# Altium footprint library KEYSTONE-3002.PcbLib: 1 footprints
Each footprint in its own frame and in the unit in brackets; x right, y up, seen from the top. Pads: shape width x height; smd on the part's side, far side on the other; paste and mask are expansions set on the pad; w line width, h text height; cw(c..) or ccw(c..) is an arc to the next point about the centre after c.
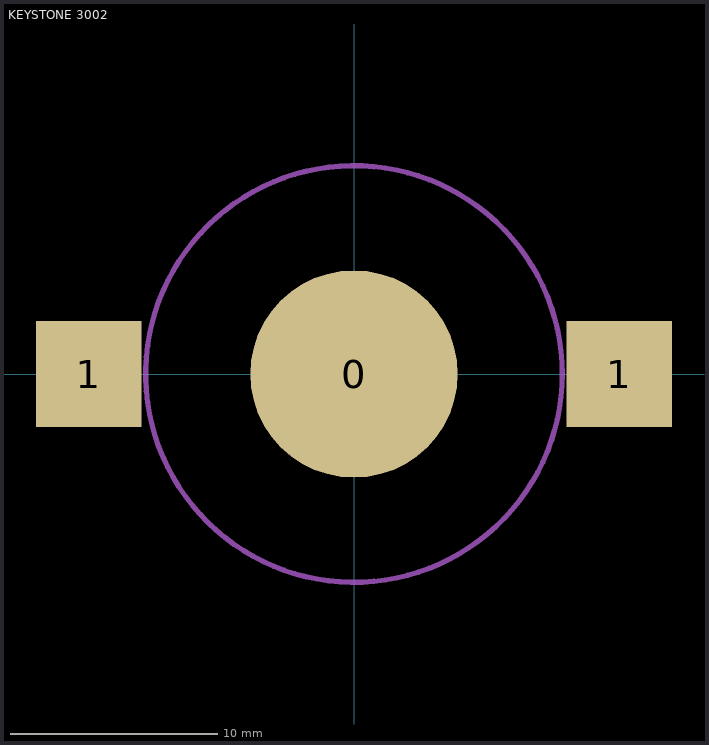
[diagram p0: the footprint, top view; thin cyan lines are the x and y axes]

## KEYSTONE 3002 [mm] "KEYSTONE 3002 CR2032 BATTERY HOLDER"
height 4
pads (3):
  round 10 smd: 0(0,0)
  rect 5.1x5.1 smd: 1(-12.8,0) 1(12.8,0)
Mechanical 15:
  circle w0.254: c0,0 r10.05
  lines w0.1: -0.5,0 0.5,0 ; 0,-0.5 0,0.5
3D body "keystone-PN3002.STEP": height 3.95, standoff -0.01, extent -15.38,-10.508 15.38,9.355